# EAGLE library part TPS62056 (library parts)
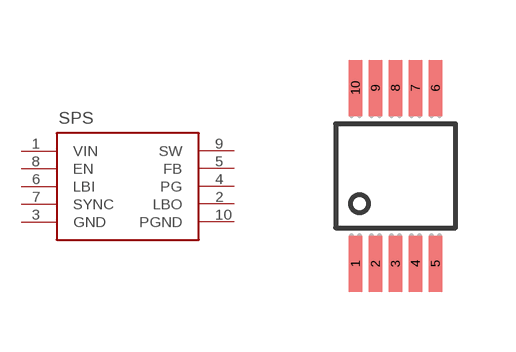
[diagram p2: symbol with the pads of 10-MSOP; footprint 10-MSOP]

Designator prefix SPS

## TPS62056  [10-MSOP]
1  VIN
2  LBO
3  GND
4  PG
5  FB
6  LBI
7  SYNC
8  EN
9  SW
10  PGND

## Footprint 10-MSOP (pad centres in mm)
smd 0.33 x 1.4: 1 -1,-2.2; 2 -0.5,-2.2; 3 0,-2.2; 4 0.5,-2.2; 5 1,-2.2; 6 1,2.2; 7 0.5,2.2; 8 0,2.2; 9 -0.5,2.2; 10 -1,2.2